# Altium schematic symbol library hot_board.SCHLIB: 18 symbols
Pins are listed as number, name and electrical type; pins without a type are passive.

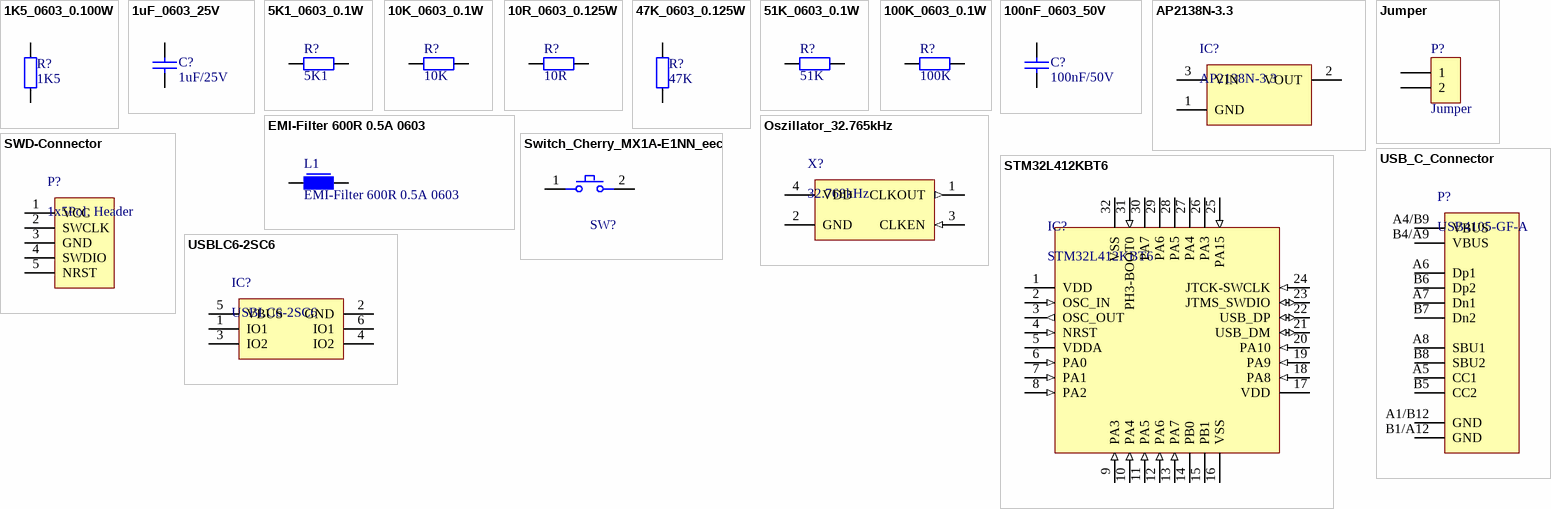
[diagram p0: symbols 1K5_0603_0.100W to USBLC6-2SC6]

## 1K5_0603_0.100W
designator R?, comment 1K5
1K5 Chip-Widerstand, 1%, 0.100W, 0603; Artikelnummer_HEK: 1191340; Richtpreis_EURO: 0.0004; Artikelnummer_DIS: *; Artikelnummer_SAP: *; Artikelnummer_FA: *; Datum: 20.03.14; Info: *; Bestückung: *; HelpURL: *
footprint 0603
pins: 1, 2

## 1uF_0603_25V
designator C?, comment 1uF/25V
Keramikkondensator, 1uF, 25V, 10%, SMD 0603, X5R; Artikelnummer_HEK: 1280791; Artikelnummer_FA: 1735540; Richtpreis_EURO: 0.01; Artikelnummer_MOU: 80-C0603C105K3PAC; Hersteller: Kemet; Artikelnummer_SAP: *; Artikelnummer_DIS: *; Info: *; Datum: 03.10.2010; HelpURL: *; Bestückung: *; Dielektrikum: X5R
footprint 0603
pins: 1, 2

## 5K1_0603_0.1W
designator R?, comment 5K1
5K1 Chip-Widerstand, 1%. 0.1W, 0603; Artikelnummer_HEK: 1191429; Artikelnummer_DIS: 715605; Richtpreis_EURO: 0.0004; Artikelnummer_FA: *; Info: *; Datum: 26.04.06
footprint 0603
pins: 1, 2

## 10K_0603_0.1W
designator R?, comment 10K
10K Chip-Widerstand, 1%, 0.1W, 0603; Artikelnummer_HEK: 1190782; Richtpreis_EURO: 0.0001; Artikelnummer_FA: *; Artikelnummer_DIS: *; Artikelnummer_SAP: *; Info: *; Datum: 20.03.14; Bestückung: *; HelpURL: *
footprint 0603
pins: 1, 2

## 10R_0603_0.125W
designator R?, comment 10R
10R Chip-Widerstand, 1%, 0.125W, 0603; Artikelnummer_HEK: 1191543; Artikelnummer_FA: 1576250; Richtpreis_EURO: 0.01; Artikelnummer_DIS: *; Artikelnummer_SAP: *; Info: *; Datum: 26.04.06; Bestückung: *; HelpURL: *
footprint 0603
pins: 1, 2

## 47K_0603_0.125W
designator R?, comment 47K
47K Chip-Widerstand, 1%, 0.125W, 0603; Artikelnummer_HEK: 1191450; Artikelnummer_FA: 1576305; Artikelnummer_DIS: 715628; Richtpreis_EURO: 0.01; Artikelnummer_SAP: *; Datum: 20.12.06; Info: *; HelpURL: http://hk79295n10/idmws/doccontent.dll?library=hekatron^hk79295n11&id=004062332; Bestückung: *
footprint 0603
pins: 1, 2

## 51K_0603_0.1W
designator R?, comment 51K
51K Chip-Widerstand, 1%. 0.1W, 0603; Artikelnummer_HEK: 1191872; Artikelnummer_FA: 1799349; Richtpreis_EURO: 0.01; Artikelnummer_DIS: *; Artikelnummer_SAP: *; Info: *; Datum: 14.05.10; HelpURL: http://hk79295n10/IDMWSout/doccontent.dll?library=hekatron^hk79295n11&id=004064519; Bestückung: *
footprint 0603
pins: 1, 2

## 100K_0603_0.1W
designator R?, comment 100K
100K Chip-Widerstand, 1%, 0.063W, 0603; Artikelnummer_HEK: 1190787; Richtpreis_EURO: 0.0003; Artikelnummer_SAP: *; Artikelnummer_DIS: *; Artikelnummer_FA: *; Info: *; Datum: 20.03.14; Bestückung: *; HelpURL: *
footprint 0603
pins: 1, 2

## 100nF_0603_50V
designator C?, comment 100nF/50V
Keramikkondensator, 100nF, 50V, 10%, SMD 0603, X7R; Artikelnummer_HEK: 1280316; Artikelnummer_FA: 1362556; Richtpreis_EURO: 0.0017; Artikelnummer_DIS: *; Artikelnummer_SAP: *; Info: *; Datum: 08.06.06; HelpURL: http://hk79295n10/idmws/doccontent.dll?library=hekatron^hk79295n11&id=003751259
footprint 0603
pins: 1, 2

## AP2138N-3.3
designator IC?
PMIC - Spannungsregler - Linear 1 Ausgang 250mA SOT-23-3
footprint SOT23-3 (SOT-23; 3 Leads; Body 3.0 x 2.5 mm, inc. leads (LxW max))
pins: 1 GND, 2 VOUT, 3 VIN

## EMI-Filter 600R 0.5A 0603
designator L1
Ferrit EMI Filter, 100MHz, 25%, 600 Ohm, 0.5A, SMD 0603; Artikelnummer_HEK: 1020415; Artikelnummer_FA: 1515723; Info: Murata: BLM18EG601SN1D; Richtpreis_EURO: 0.0183; Artikelnummer_SAP: *; Artikelnummer_DIS: *; Datum: 10.06.12; Bestückung: *; HelpURL: *
footprint 0603
pins: 1, 2

## Jumper
designator P?
Header 1x2pol; Artikelnummer_HEK: 2520674; Richtpreis_EURO: 0.2; System: Connector; SMD: N; HelpURL: http://dmshekatron.securiton.int/idmwsout/doccontent.dll?library=hekatron^hk79295n11&id=004881205; Artikelnummer_DIS: *; Artikelnummer_FA: *; Artikelnummer_SAP: *; Datum: *; Info: *; Bestückung: *
3D model c-0215297-02-c1-3d (PCB3D Model)
footprint 1x2 Header (SIP; 2 Leads; Body 4.8 x 2.2 x 10.6 mm (typ); Pitch 2.54 mm)
pins: 1, 2

## Oszillator_32.765kHz
designator X?, comment 32.768kHz
32,768kHz CMOS XO-Norm Oszillator 1,2V bis 5,5V Aktivieren/Deaktivieren 4-SMD, ohne Anschlüsse
footprint Quartz
pins: 1 CLKOUT (out), 2 GND, 3 CLKEN (in), 4 VDD

## STM32L412KBT6
designator IC?
Ultra-low-power with FPU Arm Cortex-M4 MCU 80 MHz with 128-Kbyte of Flash memory, USB
footprint LQFP-32
pins: 1 VDD (power), 2 OSC_IN (in), 3 OSC_OUT (out), 4 NRST (in), 5 VDDA (power), 6 PA0 (in), 7 PA1 (in), 8 PA2 (in), 9 PA3 (in), 10 PA4 (in), 11 PA5 (in), 12 PA6 (in), 13 PA7 (in), 14 PB0, 15 PB1, 16 VSS (power), 17 VDD (power), 18 PA8 (in), 19 PA9 (in), 20 PA10 (in), 21 USB_DM (io), 22 USB_DP (io), 23 JTMS_SWDIO (io), 24 JTCK-SWCLK (in), 25 PA15 (in), 26 PA3, 27 PA4, 28 PA5, 29 PA6, 30 PA7, 31 PH3-BOOT0 (in), 32 VSS (power)

## SWD-Connector
designator P?, comment 1x5Pol. Header
SWD Connector for Programming
footprint 1x5 Header (SIP; 2 Leads; Body 4.8 x 2.2 x 10.6 mm (typ); Pitch 2.54 mm)
pins: 1 VCC, 2 SWCLK, 3 GND, 4 SWDIO, 5 NRST

## Switch_Cherry_MX1A-E1NN_eec
designator SW?
SWITCH Pushbutton Switch SPST-NO Keyswitch Panel Mount, Front; Part Number: MX1A-E1NN; Manufacturer: Cherry; Current: 10mA AC/DC max. 10µA DC min.; Voltage: 12 VAC/DC max. 2 VDC min.; helpURL: https://upverter.com/upn/revision/05edf2e9883387c2/; ComponentLink2Description: Datasheet; Temperature: -10°C to +70°C; Package: SMT_SW_15MM6_15MM6; Supplier 2: Mouser; Price: 0.741007758432; Supplier 1: Digi-Key; ComponentLink1URL: https://upverter.com/upn/revision/05edf2e9883387c2/; Supplier Part Number 2: 540-MX1A-E1NN; Supplier Part Number 1: CH196-ND; ComponentLink1Description: Upverter; ComponentLink2URL: https://upverter.com/datasheet/a174b925b05052267a652262a41f429ea7a87855.pdf; RoHS: TRUE; Mouser Part Number: 540-MX1A-E1NN; Temperature Range High: +70°C; Digikey Description: SWITCH Pushbutton Switch SPST-NO Keyswitch Panel Mount, Front; Digikey Part Number: CH196-ND; Lead Free: yes; Circuit: SPST-NO; Temperature Range Low: -10°C
footprint Cherry_MX1A-E1NN_0
pins: 1, 2

## USB_C_Connector
designator P?, comment USB4105-GF-A
USB4105-GF-A‎ / USB2.0 TYPEC
footprint USB_SMD
pins: A1/B12 GND, A4/B9 VBUS, A5 CC1, A6 Dp1, A7 Dn1, A8 SBU1, B1/A12 GND, B4/A9 VBUS, B5 CC2, B6 Dp2, B7 Dn2, B8 SBU2

## USBLC6-2SC6
designator IC?
17V Klemme 5 A (8/20µs) Ipp TVS - Dioden Oberflächenmontage SOT-23-6
footprint SOT23-6 (SOT-23; 3 Leads; Body 3.0 x 2.5 mm, inc. leads (LxW max))
pins: 1 IO1, 2 GND, 3 IO2, 4 IO2, 5 VBUS, 6 IO1